# Altium footprint library smallTV_screenboard.PcbLib: 12 footprints
Each footprint in its own frame and in the unit in brackets; x right, y up, seen from the top. Pads: shape width x height; smd on the part's side, far side on the other; paste and mask are expansions set on the pad; w line width, h text height; cw(c..) or ccw(c..) is an arc to the next point about the centre after c.
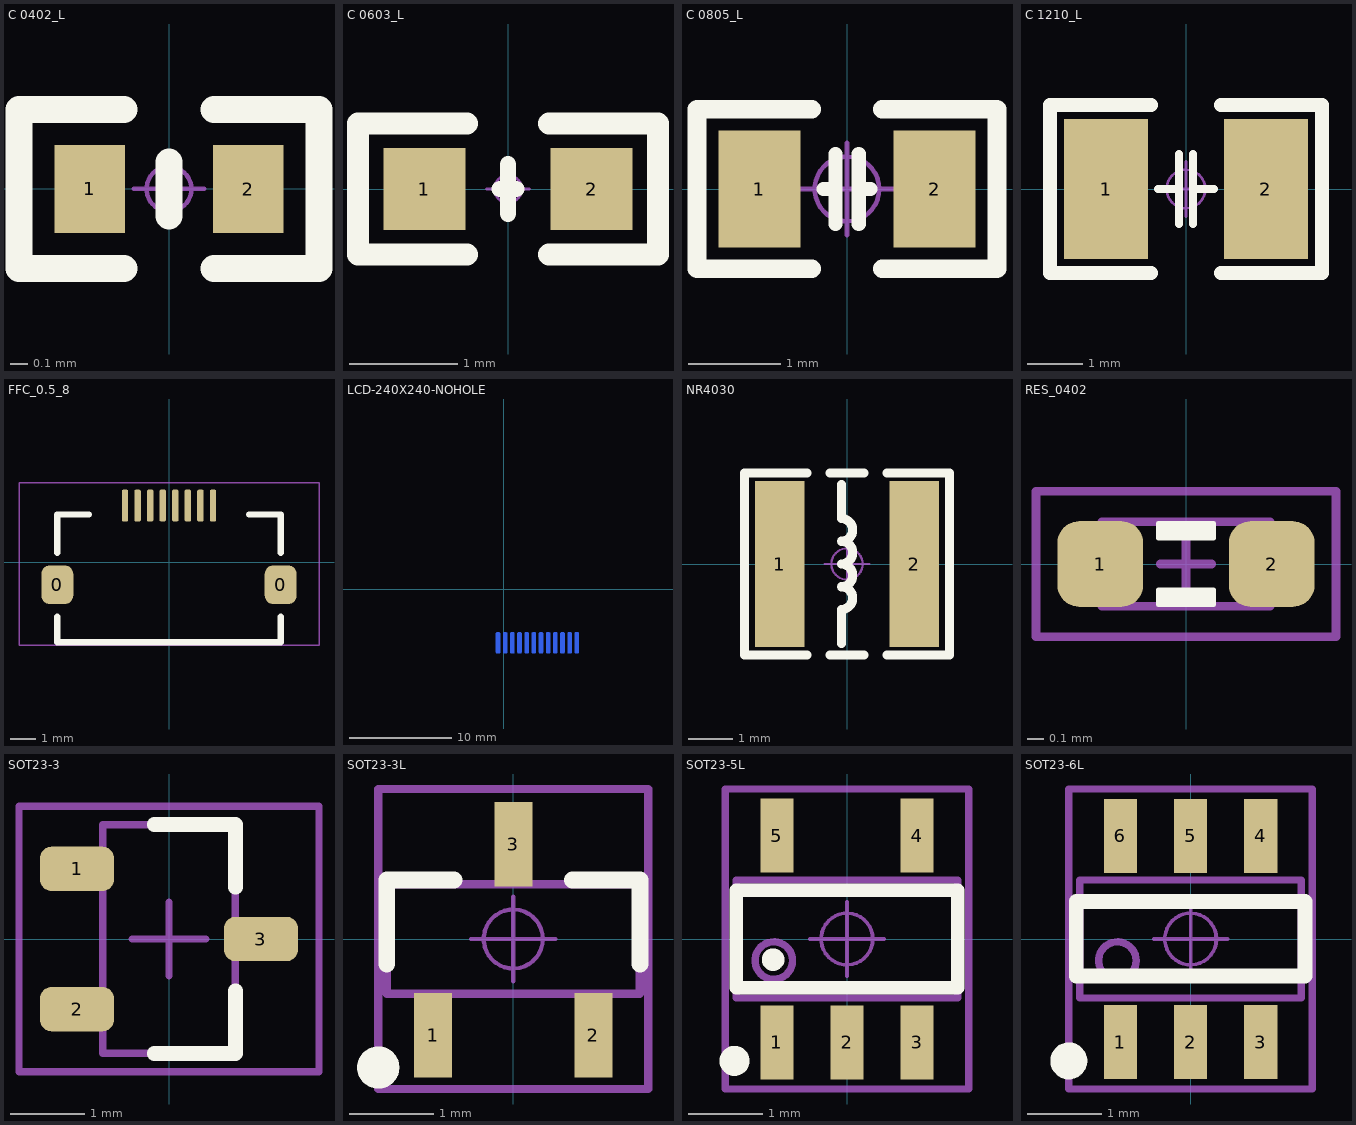
[diagram p0: the footprints below, top view; thin cyan lines are the x and y axes]

## C 0402_L [mm] "无极性贴片电容"
pads (2):
  rect 0.4x0.5 smd: 1(-0.45,0) 2(0.45,0)
Top Overlay:
  lines w0.152: -0.254,-0.45 -0.85,-0.45 ; -0.254,0.45 -0.85,0.45 -0.85,-0.45 ; 0,-0.152 0,0.152 ; 0.254,-0.45 0.85,-0.45 0.85,0.45 0.254,0.45 ; -0.85,-0.45 -0.85,-0.45
Mechanical 15:
  circle w0.025: c0,0 r0.127
  lines w0.025: -0.2,0 0.2,0 ; 0,-0.2 0,0.2
3D body "C 0402.STEP": height 0.53, standoff 0.01, extent -0.5,-0.26 0.5,0.26

## C 0603_L [mil] "无极性贴片电容"
pads (2):
  rect 30x30 smd: 1(-30.59,0) 2(30.59,0)
Top Overlay:
  lines w6: -3,0 0,0 3,0 ; 0,-9 0,9
  lines w8: -15,-24 -54.82,-24 -54.82,24 -15,24 ; 15,-24 54.82,-24 54.82,24 15,24
Mechanical 15:
  circle w1: c0,0 r5
  lines w1: -7.87,0 7.87,0 ; 0,-7.87 0,7.87
3D body "C 0603.STEP": height 31.89, standoff -0.39, extent -31.5,-16.14 31.5,16.14

## C 0805_L [mil] "无极性贴片电容"
height 19.68
pads (2):
  rect 35x50 smd: 1(-37.4,0) 2(37.4,0)
Top Overlay:
  lines w6: -10,0 -5,0 ; -5,-15 -5,15 ; 5,-15 5,15 ; 5,0 10,0
  lines w8: -15,-34 -64,-34 -64,34 -15,34 ; 15,-34 64,-34 64,34 15,34
Mechanical 15:
  circle w1.97: c0,0 r13.78
  circle w1.97: c0,0 r13.78
  lines w1.97: -19.68,0 19.68,0 -19.68,0 ; 0,-19.68 0,19.68 0,-19.68
3D body "C 0805.STEP": height 20.08, standoff -0.39, extent -39.37,-24.02 39.37,24.02

## C 1210_L [mm] "无极性贴片电容"
pads (2):
  rect 1.524x2.54 smd: 1(-1.45,0) 2(1.45,0)
Top Overlay:
  lines w0.152: -0.508,0 -0.127,0 ; -0.127,-0.635 -0.127,0.635 ; 0.127,-0.635 0.127,0.635 ; 0.127,0 0.508,0
  lines w0.254: -0.635,-1.524 -2.464,-1.524 -2.464,1.524 -0.635,1.524 ; 0.635,-1.524 2.464,-1.524 2.464,1.524 0.635,1.524
Mechanical 15:
  circle w0.05: c0,0 r0.35
  lines w0.05: -0.5,0 0.5,0 ; 0,-0.5 0,0.5
3D body "C 1210.STEP": height 1.54, standoff 0.01, extent -1.6,-1.285 1.6,1.285

## FFC_0.5_8 [mil]
height 78.74
pads (10):
  rrect50% 50x60 smd: 0(-175,-35) 0(175,-35)
  rrect50% 10x50 smd: 1(-68.9,89) 2(-49.21,89) 3(-29.53,89) 4(-9.84,89) 5(9.84,89) 6(29.53,89) 7(49.21,89) 8(68.9,89)
Top Overlay:
  lines w10: -175,-85 -175,-125 175,-125 175,-85 ; -175,15 -175,75 -125.63,75 ; 125.63,75 175,75 175,15
Mechanical 14:
  lines w2: -235,-130 -235,125 235,125 235,-130 -235,-130
3D body "fpc.step": height 81.71, standoff -1.16, extent -187,-123.51 187.01,86.56

## LCD-240X240-NOHOLE [mil]
height 31.5
pads (12):
  rrect50% 15.75x80 smd far side: 1(282,-207) 2(254.44,-207) 3(226.88,-207) 4(199.32,-207) 5(171.76,-207) 6(144.2,-207) 7(116.65,-207) 8(89.09,-207) 9(61.53,-207) 10(33.97,-207) 11(6.41,-207) 12(-21.15,-207)
Bottom Overlay:
  lines w10: -499.3,-481 -499.3,674 533.7,674 533.7,-481
3D body "tft.step": height 19.59, standoff -116.35, extent -499.31,-565.47 533.69,673.34

## NR4030 [mm] "4.0mm*4.0mm*3.0mm(长*宽*高）"
pads (2):
  rect 1.1x3.7 smd: 1(-1.5,0) 2(1.5,0)
Top Overlay:
  lines w0.203: -0.889,-2.032 -2.286,-2.032 -2.286,2.032 -0.889,2.032 ; -0.381,-2.032 0.381,-2.032 ; -0.381,2.032 0.381,2.032 ; -0.127,-1.778 -0.127,-1.016 ccw(c-0.127,-0.762) -0.127,-0.508 ccw(c-0.127,-0.254) -0.127,0 ccw(c-0.127,0.254) -0.127,0.508 ccw(c-0.127,0.762) -0.127,1.016 -0.127,1.778 ; 0.889,-2.032 2.286,-2.032 2.286,2.032 0.889,2.032
Mechanical 15:
  circle w0.05: c0,0 r0.35
  lines w0.05: -0.5,0 0.5,0 ; 0,-0.5 0,0.5
3D body "NR4030.STEP": height 3.1, standoff 0, extent -2,-2 2,2

## RES_0402 [mil]
height 13.78
pads (2):
  rrect50% 20x20 smd: 1(-20,0) 2(20,0)
Top Overlay:
  region: 6.5,-9.5 -6.5,-9.5 -6.5,-6 6.5,-6
  region: -6.5,9.5 6.5,9.5 6.5,6 -6.5,6
  lines w1: -6.5,-9.5 6.5,-9.5 6.5,-6 -6.5,-6 -6.5,-9.5 ; -6.5,6 -6.5,9.5 6.5,9.5 6.5,6 -6.5,6
Mechanical 13:
  lines w2: -6,0 6,0 ; 0,-6 0,6 ; -19.69,-9.84 -19.69,9.84 19.68,9.84 19.68,-9.84 -19.69,-9.84
Mechanical 14:
  lines w2: -35,-17 35,-17 35,17 -35,17 -35,-17
3D body "RESC1005X03L.step": height 13.78, standoff 0, extent -19.68,-9.84 19.69,9.85

## SOT23-3 [mm] "SOT23, 3-Leads, Body 3.1x3.0mm (max), Pitch 0.95mm, IPC Medium Density"
height 1.2
pads (3):
  rrect50% 1x0.6 smd: 1(-1.246,0.95) 2(-1.246,-0.95) 3(1.246,0)
Top Overlay:
  lines w0.2: -0.2,-1.55 0.9,-1.55 0.9,-0.7 ; -0.2,1.55 0.9,1.55 0.9,0.7
Mechanical 13:
  lines w0.1: -0.9,-1.55 -0.9,1.55 0.9,1.55 0.9,-1.55 -0.9,-1.55
Mechanical 15:
  lines w0.1: -0.5,0 0.5,0 ; 0,-0.5 0,0.5 ; -2.032,-1.8 -2.032,1.8 2.032,1.8 2.032,-1.8 -2.032,-1.8
3D body "SOT-23-3.stp": height 1.2, standoff 0, extent -1.298,-1.45 1.502,1.45

## SOT23-3L [mm] "3x1.3x1mm(长宽高)"
height 1.1
pads (3):
  rect 0.45x1 smd: 1(-0.95,-1.143) 2(0.95,-1.143) 3(0,1.125)
Top Overlay:
  circle w0.25: c-1.6,-1.524 r0.125
  lines w0.2: -1.5,-0.3 -1.5,0.7 -0.7,0.7 ; 0.7,0.7 1.5,0.7 1.5,-0.3
Mechanical 13:
  lines w0.1: -1.5,-0.65 1.5,-0.65 1.5,0.65 -1.5,0.65 -1.5,-0.65
Mechanical 15:
  circle w0.05: c0,0 r0.35
  lines w0.05: -0.5,0 0.5,0 ; 0,-0.5 0,0.5
  lines w0.1: -1.6,-1.778 1.6,-1.778 1.6,1.778 -1.6,1.778 -1.6,-1.778
3D body "SOT23-3.STEP": height 1.05, standoff 0, extent -1.5,-1.2 1.5,1.2

## SOT23-5L [mm] "3x1.6x1.1mm(长宽高)"
pads (5):
  rect 0.45x1 smd: 1(-0.95,-1.4) 2(0,-1.4) 3(0.95,-1.4) 4(0.95,1.4) 5(-0.95,1.4)
Top Overlay:
  circle w0.254: c-1.001,-0.279 r0.025
  circle w0.254: c-1.524,-1.651 r0.076
  lines w0.178: -1.5,-0.66 1.5,-0.66 1.5,0.66 -1.5,0.66 -1.5,-0.66
Mechanical 13:
  circle w0.1: c-0.992,-0.292 r0.254
  lines w0.1: -1.5,-0.8 -1.5,0.8 1.5,0.8 1.5,-0.8 -1.5,-0.8
Mechanical 15:
  circle w0.05: c0,0 r0.35
  lines w0.05: -0.5,0 0.5,0 ; 0,-0.5 0,0.5
  lines w0.1: -1.651,-2.032 -1.651,2.032 1.651,2.032 1.651,-2.032 -1.651,-2.032
3D body "SOT23-5.STEP": height 1.15, standoff -0.03, extent -1.5,-1.403 1.5,1.403

## SOT23-6L [mm] "3x1.6x1.1mm(长宽高)"
height 1.45
pads (6):
  rect 0.45x1 smd: 1(-0.95,-1.397) 2(0,-1.397) 3(0.95,-1.397) 4(0.95,1.397) 5(0,1.397) 6(-0.95,1.397)
Top Overlay:
  circle w0.25: c-1.65,-1.651 r0.125
  lines w0.2: -1.55,-0.5 -1.55,0.508 1.55,0.508 1.55,-0.5 -1.55,-0.5
Mechanical 13:
  circle w0.1: c-0.992,-0.292 r0.254
  lines w0.1: -1.5,-0.8 1.5,-0.8 1.5,0.8 -1.5,0.8 -1.5,-0.8
Mechanical 15:
  circle w0.05: c0,0 r0.35
  lines w0.05: -0.5,0 0.5,0 ; 0,-0.5 0,0.5
  lines w0.1: -1.65,-2.032 1.65,-2.032 1.65,2.032 -1.65,2.032 -1.65,-2.032
3D body "SOT23-6.STEP": height 1.15, standoff -0.03, extent -1.5,-1.404 1.5,1.403